# Altium footprint library ACS712ELCTR-30A-T.PcbLib: 1 footprints
Each footprint in its own frame and in the unit in brackets; x right, y up, seen from the top. Pads: shape width x height; smd on the part's side, far side on the other; paste and mask are expansions set on the pad; w line width, h text height; cw(c..) or ccw(c..) is an arc to the next point about the centre after c.
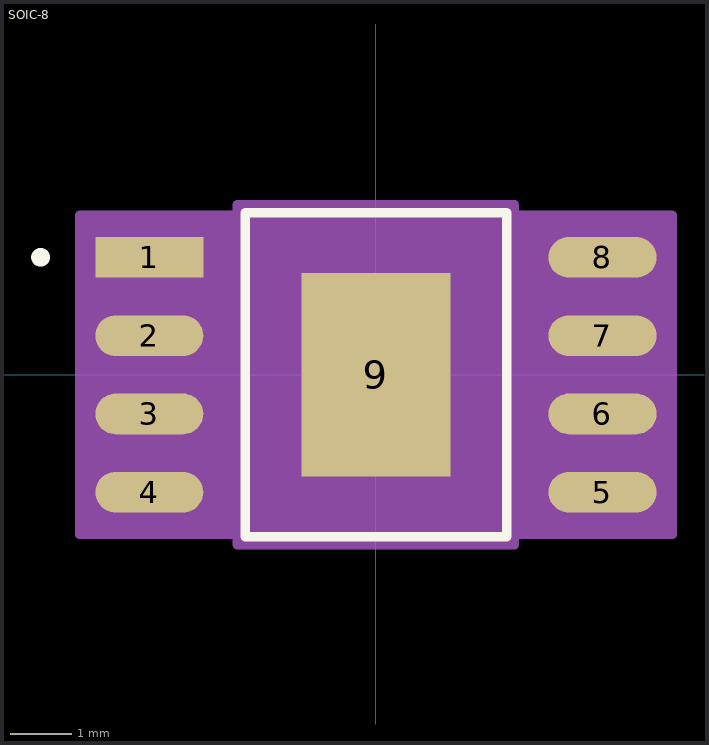
[diagram p0: the footprint, top view; thin cyan lines are the x and y axes]

## SOIC-8 [mil]
pads (9):
  rect 69x26 smd paste+0 mask+0: 1(-144.69,75)
  oval 69x26 smd paste+0 mask+0: 2(-144.69,25) 3(-144.69,-25) 4(-144.69,-75) 5(144.69,-75) 6(144.69,-25) 7(144.69,25) 8(144.69,75)
  rect 95x130 smd paste-64.5 mask+0: 9(0,0)
Top Overlay:
  circle w6: c-214.19,75 r3
  lines w6: -83.5,-103.5 -83.5,103.5 83.5,103.5 83.5,-103.5 -83.5,-103.5
Top Paste:
  region: 43.56,-3.94 -43.56,-3.94 -43.56,-61.06 43.56,-61.06
  region: 43.56,61.06 -43.56,61.06 -43.56,3.94 43.56,3.94
Mechanical 13:
  circle w0: c-68.5,75 r3
  lines w0: -12,98.5 ccw(c0,98.5) 12,98.5
  lines w1: -78.5,-98.5 -78.5,98.5 78.5,98.5 78.5,-98.5 -78.5,-98.5
Mechanical 15:
  region: -88.5,-102 -189.19,-102 -189.19,102 -88.5,102 -88.5,108.5 88.5,108.5 88.5,102 189.19,102 189.19,-102 88.5,-102 88.5,-108.5 -88.5,-108.5
  lines w6: -189.19,-102 -88.5,-102 -88.5,-108.5 88.5,-108.5 88.5,-102 189.19,-102 189.19,102 88.5,102 88.5,108.5 -88.5,108.5 -88.5,102 -189.19,102 -189.19,-102
3D body: height 69.09, standoff 0, extent -165.39,-98.5 165.4,98.51
3D body: height 10, standoff 0, extent 0,0 10,10